# Altium footprint library I2C_MUX.PcbLib: 3 footprints
Each footprint in its own frame and in the unit in brackets; x right, y up, seen from the top. Pads: shape width x height; smd on the part's side, far side on the other; paste and mask are expansions set on the pad; w line width, h text height; cw(c..) or ccw(c..) is an arc to the next point about the centre after c.
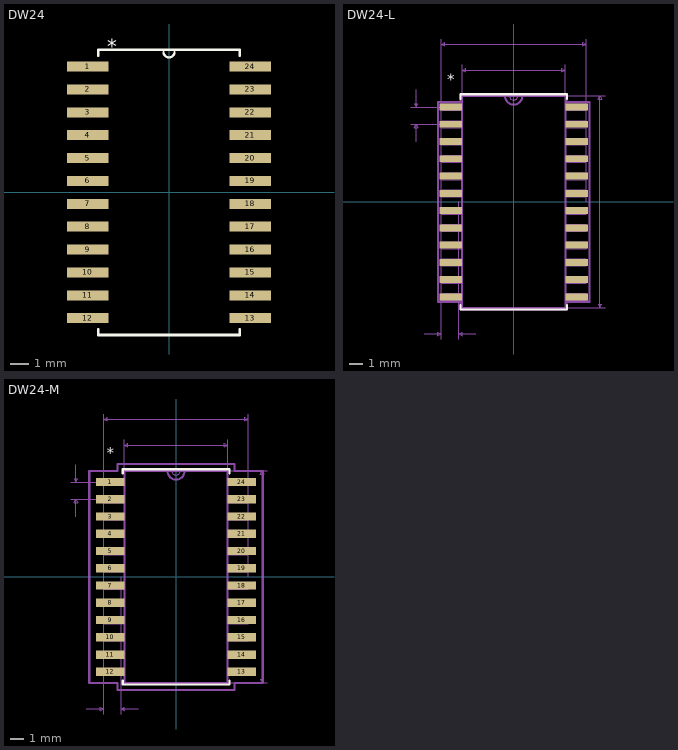
[diagram p0: the footprints below, top view; thin cyan lines are the x and y axes]

## DW24 [mil]
pads (24):
  rect 91x22 smd: 1(-178,275) 2(-178,225) 3(-178,175) 4(-178,125) 5(-178,75) 6(-178,25) 7(-178,-25) 8(-178,-75) 9(-178,-125) 10(-178,-175) 11(-178,-225) 12(-178,-275) 13(178,-275) 14(178,-225) 15(178,-175) 16(178,-125) 17(178,-75) 18(178,-25) 19(178,25) 20(178,75) 21(178,125) 22(178,175) 23(178,225) 24(178,275)
Top Overlay:
  lines w5: -12,307 ccw(c0,307) 12,307
  lines w6: -154.5,-299.1 -154.5,-312 154.5,-312 154.5,-299.1 ; -154.5,299.1 -154.5,312 154.5,312 154.5,299.1
  text "*" at -134.5,304 h31.25

## DW24-L [mil]
pads (24):
  rect 66x20 smd: 1(-182.5,275) 2(-182.5,225) 3(-182.5,175) 4(-182.5,125) 5(-182.5,75) 6(-182.5,25) 7(-182.5,-25) 8(-182.5,-75) 9(-182.5,-125) 10(-182.5,-175) 11(-182.5,-225) 12(-182.5,-275) 13(182.5,-275) 14(182.5,-225) 15(182.5,-175) 16(182.5,-125) 17(182.5,-75) 18(182.5,-25) 19(182.5,25) 20(182.5,75) 21(182.5,125) 22(182.5,175) 23(182.5,225) 24(182.5,275)
Top Overlay:
  lines w6: -154.5,-298.1 -154.5,-312 154.5,-312 154.5,-298.1 ; -154.5,298.1 -154.5,312 154.5,312 154.5,298.1
  text "*" at -192.5,340 h31.25
Mechanical 1:
  lines w1: -12,307 ccw(c0,307) 12,307 ; -209.5,-285 -209.5,-265 -149.5,-265 -149.5,-285 -209.5,-285 ; -209.5,-235 -209.5,-215 -149.5,-215 -149.5,-235 -209.5,-235 ; -209.5,-185 -209.5,-165 -149.5,-165 -149.5,-185 -209.5,-185 ; -209.5,-135 -209.5,-115 -149.5,-115 -149.5,-135 -209.5,-135 ; -209.5,-85 -209.5,-65 -149.5,-65 -149.5,-85 -209.5,-85 ; -209.5,-35 -209.5,-15 -149.5,-15 -149.5,-35 -209.5,-35 ; -209.5,15 -209.5,35 -149.5,35 -149.5,15 -209.5,15 ; -209.5,65 -209.5,85 -149.5,85 -149.5,65 -209.5,65 ; -209.5,115 -209.5,135 -149.5,135 -149.5,115 -209.5,115 ; -209.5,165 -209.5,185 -149.5,185 -149.5,165 -209.5,165 ; -209.5,215 -209.5,235 -149.5,235 -149.5,215 -209.5,215 ; -209.5,265 -209.5,285 -149.5,285 -149.5,265 -209.5,265 ; -149.5,-307 149.5,-307 149.5,307 -149.5,307 -149.5,-307 ; 149.5,-285 149.5,-265 209.5,-265 209.5,-285 149.5,-285 ; 149.5,-235 149.5,-215 209.5,-215 209.5,-235 149.5,-235 ; 149.5,-185 149.5,-165 209.5,-165 209.5,-185 149.5,-185 ; 149.5,-135 149.5,-115 209.5,-115 209.5,-135 149.5,-135 ; 149.5,-85 149.5,-65 209.5,-65 209.5,-85 149.5,-85 ; 149.5,-35 149.5,-15 209.5,-15 209.5,-35 149.5,-35 ; 149.5,15 149.5,35 209.5,35 209.5,15 149.5,15 ; 149.5,65 149.5,85 209.5,85 209.5,65 149.5,65 ; 149.5,115 149.5,135 209.5,135 209.5,115 149.5,115 ; 149.5,165 149.5,185 209.5,185 209.5,165 149.5,165 ; 149.5,215 149.5,235 209.5,235 209.5,215 149.5,215 ; 149.5,265 149.5,285 209.5,285 209.5,265 149.5,265
  text "*" at -134.5,304 h31.25
Mechanical 16:
  lines w1: -297.5,225 -182.5,225 ; -297.5,275 -182.5,275 ; -282.5,175 -282.5,225 ; -282.5,325 -282.5,275 ; -259.5,-382 -209.5,-382 ; -209.5,-397 -209.5,0 -209.5,472 ; -159.5,-397 -159.5,0 ; -149.5,0 -149.5,397 ; -109.5,-382 -159.5,-382 ; 0,-307 264.5,-307 ; 0,307 264.5,307 ; 149.5,0 149.5,397 ; 209.5,0 209.5,472 ; -282.5,225 -287.5,215 -277.5,215 -282.5,225 ; -282.5,275 -287.5,285 -277.5,285 -282.5,275 ; -209.5,-382 -219.5,-377 -219.5,-387 -209.5,-382 ; -209.5,457 209.5,457 ; -209.5,457 -199.5,462 -199.5,452 -209.5,457 ; -159.5,-382 -149.5,-377 -149.5,-387 -159.5,-382 ; -149.5,382 149.5,382 ; -149.5,382 -139.5,387 -139.5,377 -149.5,382 ; 149.5,382 139.5,387 139.5,377 149.5,382 ; 209.5,457 199.5,462 199.5,452 209.5,457 ; 249.5,-307 249.5,307 ; 249.5,-307 244.5,-297 254.5,-297 249.5,-307 ; 249.5,307 244.5,297 254.5,297 249.5,307
  lines w6: -24.92,307 ccw(c0,307) 24.92,307 ; -219.5,-289 -219.5,289 -153.5,289 -153.5,311 153.5,311 153.5,289 219.5,289 219.5,-289 153.5,-289 153.5,-311 -153.5,-311 -153.5,-289 -219.5,-289 ; -149.5,-307 -149.5,307 149.5,307 149.5,-307 -149.5,-307
  text "Default Padstyle: RX66Y20D0T" at 0,-457 h31.25
  text "Pin One Padstyle: RX66Y20D0T" at 0,-517 h31.25
  text "Alt 1 Padstyle: OX60Y90D30P" at 0,-697 h31.25
  text "Alt 2 Padstyle: OX90Y60D30P" at 0,-757 h31.25
  text "0.299in/7.595mm" at 0,402 h15.62
  text "0.419in/10.643mm" at 0,477 h15.62
  text "0.614in/15.596mm" at 269.5,0 h15.62
  text "0.05in/1.27mm" at -302.5,250 h15.62
  text "0.05in/1.27mm" at -184.5,-402 h15.62

## DW24-M [mil]
pads (24):
  rect 82x24 smd: 1(-190.5,275) 2(-190.5,225) 3(-190.5,175) 4(-190.5,125) 5(-190.5,75) 6(-190.5,25) 7(-190.5,-25) 8(-190.5,-75) 9(-190.5,-125) 10(-190.5,-175) 11(-190.5,-225) 12(-190.5,-275) 13(190.5,-275) 14(190.5,-225) 15(190.5,-175) 16(190.5,-125) 17(190.5,-75) 18(190.5,-25) 19(190.5,25) 20(190.5,75) 21(190.5,125) 22(190.5,175) 23(190.5,225) 24(190.5,275)
Top Overlay:
  lines w6: -154.5,-300.1 -154.5,-312 154.5,-312 154.5,-300.1 ; -154.5,300.1 -154.5,312 154.5,312 154.5,300.1
  text "*" at -200.5,344 h31.25
Mechanical 1:
  lines w1: -12,307 ccw(c0,307) 12,307 ; -209.5,-285 -209.5,-265 -149.5,-265 -149.5,-285 -209.5,-285 ; -209.5,-235 -209.5,-215 -149.5,-215 -149.5,-235 -209.5,-235 ; -209.5,-185 -209.5,-165 -149.5,-165 -149.5,-185 -209.5,-185 ; -209.5,-135 -209.5,-115 -149.5,-115 -149.5,-135 -209.5,-135 ; -209.5,-85 -209.5,-65 -149.5,-65 -149.5,-85 -209.5,-85 ; -209.5,-35 -209.5,-15 -149.5,-15 -149.5,-35 -209.5,-35 ; -209.5,15 -209.5,35 -149.5,35 -149.5,15 -209.5,15 ; -209.5,65 -209.5,85 -149.5,85 -149.5,65 -209.5,65 ; -209.5,115 -209.5,135 -149.5,135 -149.5,115 -209.5,115 ; -209.5,165 -209.5,185 -149.5,185 -149.5,165 -209.5,165 ; -209.5,215 -209.5,235 -149.5,235 -149.5,215 -209.5,215 ; -209.5,265 -209.5,285 -149.5,285 -149.5,265 -209.5,265 ; -149.5,-307 149.5,-307 149.5,307 -149.5,307 -149.5,-307 ; 149.5,-285 149.5,-265 209.5,-265 209.5,-285 149.5,-285 ; 149.5,-235 149.5,-215 209.5,-215 209.5,-235 149.5,-235 ; 149.5,-185 149.5,-165 209.5,-165 209.5,-185 149.5,-185 ; 149.5,-135 149.5,-115 209.5,-115 209.5,-135 149.5,-135 ; 149.5,-85 149.5,-65 209.5,-65 209.5,-85 149.5,-85 ; 149.5,-35 149.5,-15 209.5,-15 209.5,-35 149.5,-35 ; 149.5,15 149.5,35 209.5,35 209.5,15 149.5,15 ; 149.5,65 149.5,85 209.5,85 209.5,65 149.5,65 ; 149.5,115 149.5,135 209.5,135 209.5,115 149.5,115 ; 149.5,165 149.5,185 209.5,185 209.5,165 149.5,165 ; 149.5,215 149.5,235 209.5,235 209.5,215 149.5,215 ; 149.5,265 149.5,285 209.5,285 209.5,265 149.5,265
  text "*" at -134.5,304 h31.25
Mechanical 16:
  lines w1: -305.5,225 -190.5,225 ; -305.5,275 -190.5,275 ; -290.5,175 -290.5,225 ; -290.5,325 -290.5,275 ; -259.5,-382 -209.5,-382 ; -209.5,-397 -209.5,0 -209.5,472 ; -159.5,-397 -159.5,0 ; -149.5,0 -149.5,397 ; -109.5,-382 -159.5,-382 ; 0,-307 264.5,-307 ; 0,307 264.5,307 ; 149.5,0 149.5,397 ; 209.5,0 209.5,472 ; -290.5,225 -295.5,215 -285.5,215 -290.5,225 ; -290.5,275 -295.5,285 -285.5,285 -290.5,275 ; -209.5,-382 -219.5,-377 -219.5,-387 -209.5,-382 ; -209.5,457 209.5,457 ; -209.5,457 -199.5,462 -199.5,452 -209.5,457 ; -159.5,-382 -149.5,-377 -149.5,-387 -159.5,-382 ; -149.5,382 149.5,382 ; -149.5,382 -139.5,387 -139.5,377 -149.5,382 ; 149.5,382 139.5,387 139.5,377 149.5,382 ; 209.5,457 199.5,462 199.5,452 209.5,457 ; 249.5,-307 249.5,307 ; 249.5,-307 244.5,-297 254.5,-297 249.5,-307 ; 249.5,307 244.5,297 254.5,297 249.5,307
  lines w6: -24.92,307 ccw(c0,307) 24.92,307 ; -251.5,-307 -251.5,307 -169.5,307 -169.5,327 169.5,327 169.5,307 251.5,307 251.5,-307 169.5,-307 169.5,-327 -169.5,-327 -169.5,-307 -251.5,-307 ; -149.5,-307 -149.5,307 149.5,307 149.5,-307 -149.5,-307
  text "Default Padstyle: RX82Y24D0T" at 0,-457 h31.25
  text "Pin One Padstyle: RX82Y24D0T" at 0,-517 h31.25
  text "Alt 1 Padstyle: OX60Y90D30P" at 0,-697 h31.25
  text "Alt 2 Padstyle: OX90Y60D30P" at 0,-757 h31.25
  text "0.299in/7.595mm" at 0,402 h15.62
  text "0.419in/10.643mm" at 0,477 h15.62
  text "0.614in/15.596mm" at 269.5,0 h15.62
  text "0.05in/1.27mm" at -310.5,250 h15.62
  text "0.05in/1.27mm" at -184.5,-402 h15.62